# EAGLE library part EM406 (library icarus_sensors)
EM406 GPS Connector Proven layout and schematic for EM406 connector. Spark Fun Electronics SKU : GPS-00579
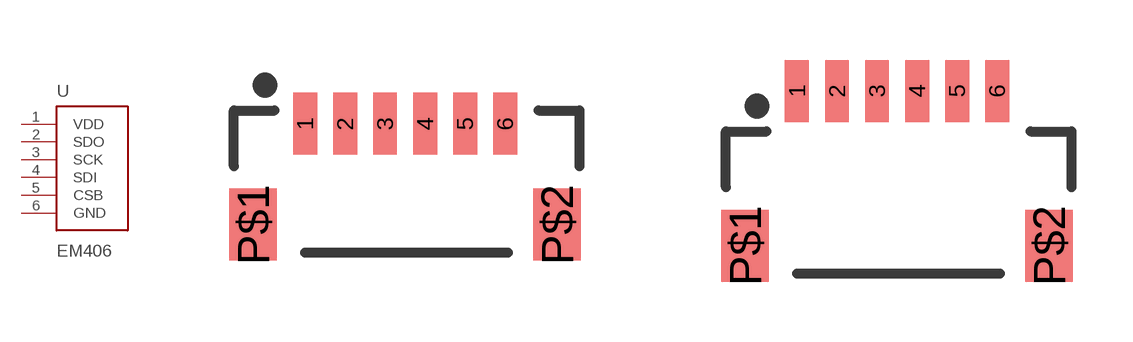
[diagram p4: symbol with the pads of EM406; footprints EM406, EM406-FLAT]

Designator prefix U

## EM406STRAIGHT_UP  [EM406]
1  VDD
2  SDO
3  SCK
4  SDI
5  CSB
6  GND

## EM406FLAT  [EM406-FLAT]
Pads as for EM406

## Footprint EM406 (pad centres in mm)
smd 0.6 x 1.55: 1 0,0.3; 2 1,0.3; 3 2,0.3; 4 3,0.3; 5 4,0.3; 6 5,0.3
smd 1.2 x 1.8: P$1 -1.3,-2.225; P$2 6.3,-2.225

## Footprint EM406-FLAT (pad centres in mm)
smd 0.6 x 1.55: 1 -2.54,2.92; 2 -1.54,2.92; 3 -0.54,2.92; 4 0.46,2.92; 5 1.46,2.92; 6 2.46,2.92
smd 1.2 x 1.8: P$1 -3.84,-0.955; P$2 3.76,-0.955